# EAGLE library part INA214AIDCKT (library open-bldc)
CURRENT SHUNT MONITOR
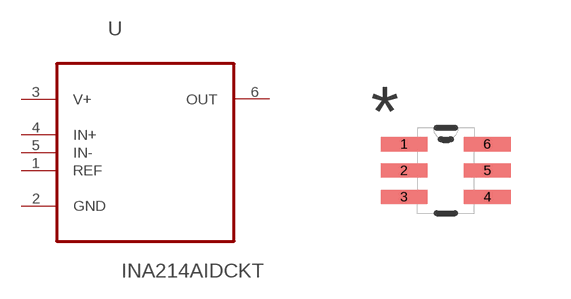
[diagram p29: symbol with the pads of SOT65P210X110-6N; footprint SOT65P210X110-6N]

Designator prefix U

## INA214AIDCKT (MPN: INA214AIDCKT; OC_FARNELL: 1754262; OC_NEWARK: 05N1041; PACKAGE: SC-70-6; SUPPLIER: Texas Instruments)  [SOT65P210X110-6N]
1  REF  in
2  GND  pas
3  V+  pwr
4  IN+  in
5  IN-  in
6  OUT  out

## Footprint SOT65P210X110-6N (pad centres in mm)
smd 1.168 x 0.356: 1 -1.041,0.66; 2 -1.041,0; 3 -1.041,-0.66; 4 1.041,-0.66; 5 1.041,0; 6 1.041,0.66